# Altium schematic symbol library VLMG1500-GS08.SchLib: 1 symbol
Pins are listed as number, name and electrical type; pins without a type are passive.

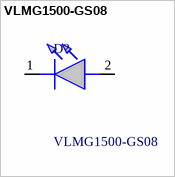
[diagram p0: symbol VLMG1500-GS08]

## VLMG1500-GS08
designator D?
VISHAY - VLMG1500-GS08.. - LED, YELLOW GREEN, 35MCD, 0402; Geometry.Height: 0.35mm; Manufacturer_Name: Vishay; Manufacturer_Part_Number: VLMG1500-GS08; Mouser Part Number: 78-VLMG1500-GS08; Mouser Price/Stock: https://www.mouser.co.uk/ProductDetail/Vishay-Semiconductors/VLMG1500-GS08?qs=2BArZ0I3QlnGshLieL4M4Q%3D%3D; Arrow Part Number: VLMG1500-GS08; Arrow Price/Stock: https://www.arrow.com/en/products/vlmg1500-gs08/vishay?region=nac; Datasheet Link: https://www.vishay.com/docs/82554/vlmo1500.pdf
footprint LEDC1005X35N
pins: 1 K, 2 A